# EAGLE library part JS0204AP4 (library JS0204AP4)
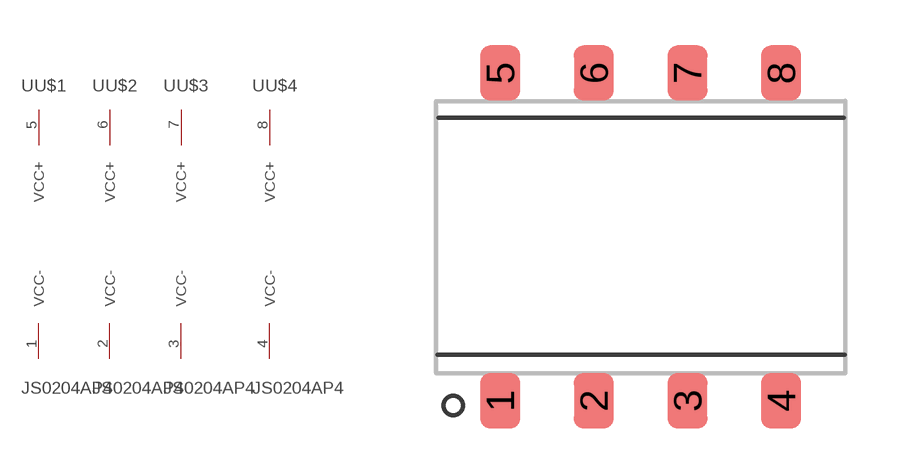
[diagram p0: symbol with the pads of JS0204AP; footprint JS0204AP]

Designator prefix U; gates U$1=POWER U$2=POWER U$3=POWER U$4=POWER

## JS0204AP4  [JS0204AP]
1  U$1:VCC-
2  U$2:VCC-
3  U$3:VCC-
4  U$4:VCC-
5  U$1:VCC+
6  U$2:VCC+
7  U$3:VCC+
8  U$4:VCC+

## Footprint JS0204AP (pad centres in mm)
smd 1.092 x 1.499: 1 -3.81,-4.445; 2 -1.27,-4.445; 3 1.27,-4.445; 4 3.81,-4.445; 5 -3.81,4.445; 6 -1.27,4.445; 7 1.27,4.445; 8 3.81,4.445